# EAGLE library part MPRLS0300YG00001B (library MPRLS0300YG00001B)
Board Mount Pressure Sensors Source: Datasheet <https://sensing.honeywell.com/honeywell-sensing-micropressure-board-mount-pressure-mpr-series-datasheet-32332628-c-en.pdf>
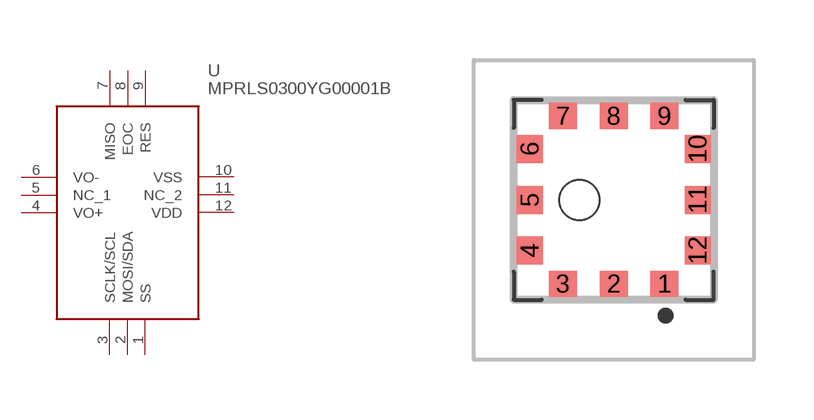
[diagram p0: symbol with the pads of MPRLS0300YG00001B; footprint MPRLS0300YG00001B]

Designator prefix U

## MPRLS0300YG00001B (Description: Board Mount Pressure Sensors; Height: 5mm; Manufacturer_Name: Honeywell; Manufacturer_Part_Number: MPRLS0300YG00001B; Mouser_Part_Number: 785-MPRLS0300YG0001B; Mouser_Price-Stock: https://www.mouser.co.uk/ProductDetail/Honeywell/MPRLS0300YG00001B?qs=MLItCLRbWszf0bln%252B%2FiVCQ%3D%3D)  [MPRLS0300YG00001B]
1  SS
2  MOSI/SDA
3  SCLK/SCL
4  VO+
5  NC_1
6  VO-
7  MISO
8  EOC
9  RES
10  VSS
11  NC_2
12  VDD

## Footprint MPRLS0300YG00001B (pad centres in mm)
MPRLS0300YG00001B
smd 0.7 x 0.65: 1 1.27,-1.85; 2 0,-1.85; 3 -1.27,-1.85; 7 -1.27,2.35; 8 0,2.35; 9 1.27,2.35
smd 0.65 x 0.7: 4 -2.1,-1.02; 5 -2.1,0.25; 6 -2.1,1.52; 10 2.1,1.52; 11 2.1,0.25; 12 2.1,-1.02
hole 1 at -0.86,0.25